# Altium schematic symbol library ESP32-H2-MINI-1-H2.SchLib: 1 symbol
Pins are listed as number, name and electrical type; pins without a type are passive.

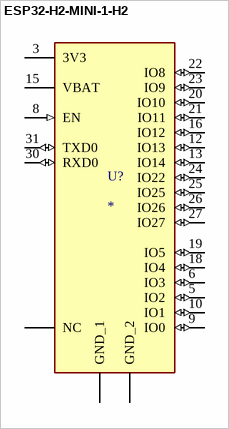
[diagram p0: symbol ESP32-H2-MINI-1-H2]

## ESP32-H2-MINI-1-H2
designator U?
802.15.4, Bluetooth Bluetooth v5.3, ZigbeeÂ® Transceiver Module 2.4GHz Integrated, Trace Surface Mount; MF: Espressif Systems; MP: ESP32-H2-MINI-1-H2; SnapEDA_Link: https://www.snapeda.com/parts/ESP32-H2-MINI-1-H2/Espressif+Systems/view-part/?ref=snap; Package: SMD-53 Espressif Systems; Check_prices: https://www.snapeda.com/parts/ESP32-H2-MINI-1-H2/Espressif+Systems/view-part/?ref=eda; Value: *
footprint MODULE_ESP32-H2-MINI-1-H2
pins: 1,2,11,14,36,37,38,39,40,41,42,43,44,45,46 GND_1 (power), 3 3V3 (power), 4,7,17,28,29,32,33,34,35 NC, 5 IO2 (io), 6 IO3 (io), 8 EN (in), 9 IO0 (io), 10 IO1 (io), 12 IO13 (io), 13 IO14 (io), 15 VBAT (power), 16 IO12 (io), 18 IO4 (io), 19 IO5 (io), 20 IO10 (io), 21 IO11 (io), 22 IO8 (io), 23 IO9 (io), 24 IO22 (io), 25 IO25 (io), 26 IO26 (io), 27 IO27 (io), 30 RXD0 (io), 31 TXD0 (io), 47,48,49_1,49_2,49_3,49_4,49_5,49_6,49_7,49_8,49_9,49_9,50,51,52,53 GND_2 (power)